# Altium footprint library MIC5219-x.PcbLib: 3 footprints
Each footprint in its own frame and in the unit in brackets; x right, y up, seen from the top. Pads: shape width x height; smd on the part's side, far side on the other; paste and mask are expansions set on the pad; w line width, h text height; cw(c..) or ccw(c..) is an arc to the next point about the centre after c.
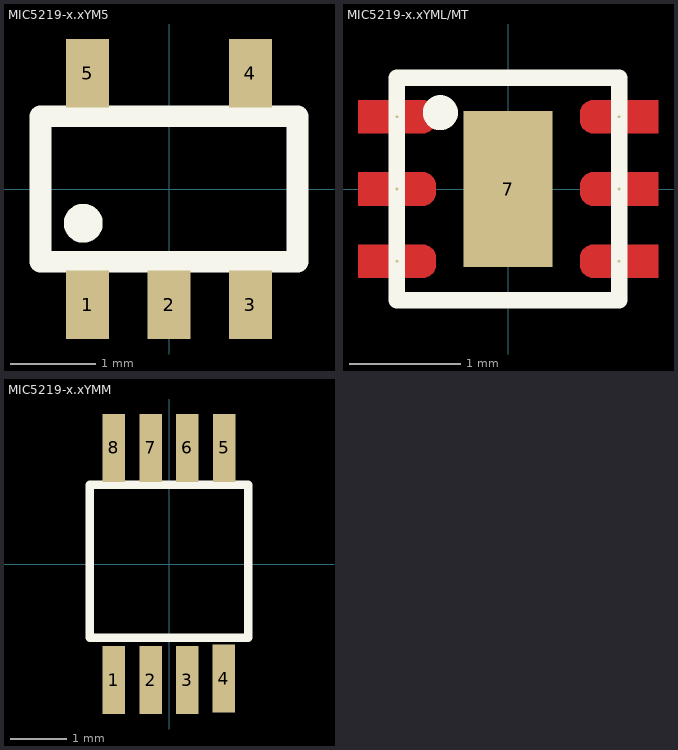
[diagram p0: the footprints below, top view; thin cyan lines are the x and y axes]

## MIC5219-x.xYM5 [mm] "MIC5219-x.xYM5, SOT-23-5"
height 1.2
pads (5):
  rect 0.5x0.8 smd: 1(-0.95,-1.35) 2(0,-1.35) 3(0.95,-1.35) 4(0.95,1.35) 5(-0.95,1.35)
Top Overlay:
  circle w0.254: c-1,-0.4 r0.1
  lines w0.254: -1.5,-0.85 1.5,-0.85 1.5,0.85 -1.5,0.85 -1.5,-0.85
Top Designator:
  text ".Designator" at -5.998,-0.404 h1.2
3D body "MIC5219-2.7BM5TR.stp": height 1.45, standoff 0, extent -1.475,-1.4 1.475,1.4

## MIC5219-x.xYML/MT [mm] "MIC5219-x.xYML/MT, 6-Pin MLF"
height 0.6
pads (7):
  round 0.025 smd: 1(-1,0.65) 2(-1,0) 3(-1,-0.65) 4(1,-0.65) 5(1,0) 6(1,0.65)
  rect 0.8x1.4 smd: 7(0,0)
Top Layer:
  region: -0.77,0.5 -1.35,0.5 -1.35,0.8 -0.77,0.8 -0.746,0.8 -0.702,0.782 -0.668,0.748 -0.65,0.704 -0.65,0.68 -0.65,0.62 -0.65,0.596 -0.668,0.552 -0.702,0.518 -0.746,0.5
  region: -0.77,-0.15 -1.35,-0.15 -1.35,0.15 -0.77,0.15 -0.746,0.15 -0.702,0.132 -0.668,0.098 -0.65,0.054 -0.65,0.03 -0.65,-0.03 -0.65,-0.054 -0.668,-0.098 -0.702,-0.132 -0.746,-0.15
  region: -0.77,-0.8 -1.35,-0.8 -1.35,-0.5 -0.77,-0.5 -0.746,-0.5 -0.702,-0.518 -0.668,-0.552 -0.65,-0.596 -0.65,-0.62 -0.65,-0.68 -0.65,-0.704 -0.668,-0.748 -0.702,-0.782 -0.746,-0.8
  region: 0.77,0.8 1.35,0.8 1.35,0.5 0.77,0.5 0.746,0.5 0.702,0.518 0.668,0.552 0.65,0.596 0.65,0.62 0.65,0.68 0.65,0.704 0.668,0.748 0.702,0.782 0.746,0.8
  region: 0.77,0.15 1.35,0.15 1.35,-0.15 0.77,-0.15 0.746,-0.15 0.702,-0.132 0.668,-0.098 0.65,-0.054 0.65,-0.03 0.65,0.03 0.65,0.054 0.668,0.098 0.702,0.132 0.746,0.15
  region: 0.77,-0.5 1.35,-0.5 1.35,-0.8 0.77,-0.8 0.746,-0.8 0.702,-0.782 0.668,-0.748 0.65,-0.704 0.65,-0.68 0.65,-0.62 0.65,-0.596 0.668,-0.552 0.702,-0.518 0.746,-0.5
Top Overlay:
  circle w0.254: c-0.609,0.687 r0.03
  lines w0.15: -1,-1 1,-1 1,1 -1,1 -1,-1
Top Designator:
  text ".Designator" at -6,-0.398 h1.2
3D body "MIC5219-5.0YMT-TR.stp": height 0.6, standoff 0, extent -1.057,-1.007 1.043,0.993

## MIC5219-x.xYMM [mm] "MIC5219-x.xYMM, SOT-23-5"
height 1.1
pads (8):
  rect 0.4x1.2 smd: 1(-0.975,-2.05) 2(-0.325,-2.05) 3(0.325,-2.05) 4(0.969,-2.027) 5(0.975,2.05) 6(0.325,2.05) 7(-0.325,2.05) 8(-0.975,2.05)
Top Overlay:
  lines w0.15: -1.4,-1.3 1.4,-1.3 1.4,1.4 -1.4,1.4 -1.4,-1.3
Top Designator:
  text ".Designator" at -6.004,-0.406 h1.2
3D body "MIC5219YMM.stp": height 1.1, standoff 0, extent -1.5,-2.45 1.5,2.45